# Altium footprint library A20_DVK1_BASE_V16.PcbLib: 45 footprints (part 3 of 3)
Each footprint in its own frame and in the unit in brackets; x right, y up, seen from the top. Pads: shape width x height; smd on the part's side, far side on the other; paste and mask are expansions set on the pad; w line width, h text height; cw(c..) or ccw(c..) is an arc to the next point about the centre after c.
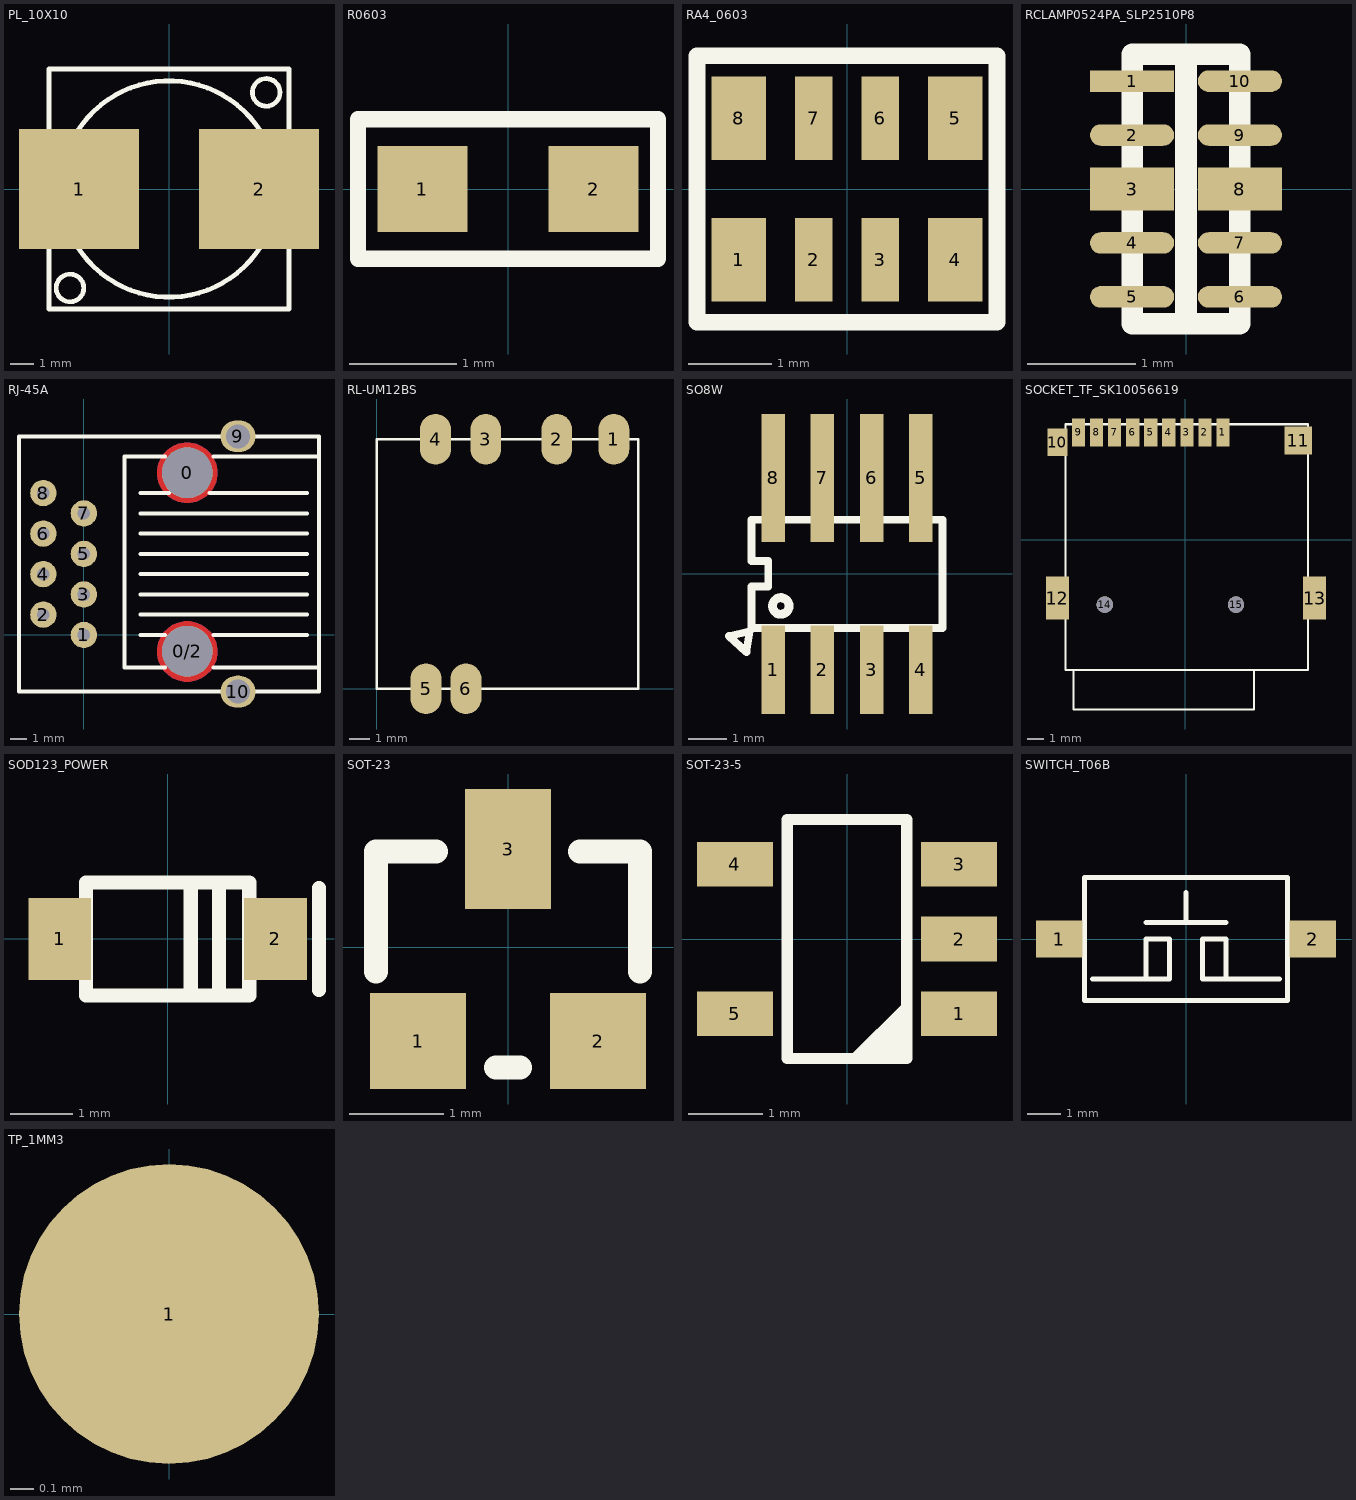
[diagram p2: the footprints below, top view; thin cyan lines are the x and y axes]

## PL_10X10 [mm]
pads (2):
  rect 5.08x5.08 smd: 1(-3.81,0) 2(3.81,0)
Top Overlay:
  circle w0.203: c0,0 r4.579
  circle w0.203: c-4.191,-4.191 r0.584
  circle w0.203: c4.115,4.089 r0.584
  lines w0.203: -5.08,-5.08 5.08,-5.08 5.08,5.08 -5.08,5.08 -5.08,-5.08

## R0603 [mm]
pads (2):
  rect 0.84x0.8 smd: 1(-0.8,0) 2(0.8,0)
Top Overlay:
  lines w0.152: -1.4,-0.65 1.4,-0.65 1.4,0.65 -1.4,0.65 -1.4,-0.65

## RA4_0603 [mm]
pads (8):
  rect 0.65x1 smd: 1(-1.3,-0.85) 4(1.3,-0.85) 5(1.3,0.85) 8(-1.3,0.85)
  rect 0.45x1 smd: 2(-0.4,-0.85) 3(0.4,-0.85) 6(0.4,0.85) 7(-0.4,0.85)
Top Overlay:
  lines w0.2: -1.8,-1.6 -1.8,1.6 1.8,1.6 1.8,-1.6 -1.8,-1.6

## RCLAMP0524PA_SLP2510P8 [mm]
pads (10):
  rect 0.78x0.2 smd: 1(-0.5,1)
  oval 0.78x0.2 smd: 2(-0.5,0.5) 4(-0.5,-0.5) 5(-0.5,-1) 6(0.5,-1) 7(0.5,-0.5) 9(0.5,0.5) 10(0.5,1)
  rect 0.78x0.4 smd paste-0.1: 3(-0.5,0) 8(0.5,0)
Top Overlay:
  lines w0.2: 0,1.25 0,1.094 0,1.25 ; 0,1.25 0,-1.25 0,1.25 ; -0.5,-1.25 0.5,-1.25 0.5,1.25 -0.5,1.25 -0.5,-1.25

## RJ-45A [mm]
pads (12):
  round 3.175 hole 3.175 unplated: 0(6.477,10.16)
  round 3.175 hole 3.175: 0/2(6.477,-1.016)
  round 1.65 hole 0.8: 1(0,0) 2(-2.54,1.27) 3(0,2.54) 4(-2.54,3.81) 5(0,5.08) 6(-2.54,6.35) 7(0,7.62) 8(-2.54,8.89)
  oval 2.2x1.991 / inner oval 2.2x2 / far side oval 3.048x2.54 hole 1.5: 9(9.652,12.446)
  oval 2.2x2 / inner oval 2.2x2 / far side oval 3.048x2.54 hole 1.5: 10(9.652,-3.556)
Top Layer:
  region: 8.362,10.16 8.362,10.346 8.289,10.71 8.147,11.053 7.941,11.361 7.678,11.624 7.37,11.83 7.027,11.972 6.663,12.045 6.477,12.045 6.291,12.045 5.927,11.972 5.584,11.83 5.276,11.624 5.013,11.361 4.807,11.053 4.665,10.71 4.592,10.346 4.592,10.16 4.592,9.974 4.665,9.61 4.807,9.267 5.013,8.959 5.276,8.696 5.584,8.49 5.927,8.348 6.291,8.275 6.477,8.275 6.663,8.275 7.027,8.348 7.37,8.49 7.678,8.696 7.941,8.959 8.147,9.267 8.289,9.61 8.362,9.974
  region: 8.362,-1.041 8.362,-0.856 8.289,-0.492 8.147,-0.149 7.941,0.16 7.678,0.423 7.37,0.629 7.027,0.771 6.663,0.843 6.477,0.843 6.291,0.843 5.927,0.771 5.584,0.629 5.276,0.423 5.013,0.16 4.807,-0.149 4.665,-0.492 4.592,-0.856 4.592,-1.041 4.592,-1.227 4.665,-1.591 4.807,-1.934 5.013,-2.243 5.276,-2.505 5.584,-2.712 5.927,-2.854 6.291,-2.926 6.477,-2.926 6.663,-2.926 7.027,-2.854 7.37,-2.712 7.678,-2.505 7.941,-2.243 8.147,-1.934 8.289,-1.591 8.362,-1.227
Bottom Layer:
  region: 8.362,10.16 8.362,10.346 8.289,10.71 8.147,11.053 7.941,11.361 7.678,11.624 7.37,11.83 7.027,11.972 6.663,12.045 6.477,12.045 6.291,12.045 5.927,11.972 5.584,11.83 5.276,11.624 5.013,11.361 4.807,11.053 4.665,10.71 4.592,10.346 4.592,10.16 4.592,9.974 4.665,9.61 4.807,9.267 5.013,8.959 5.276,8.696 5.584,8.49 5.927,8.348 6.291,8.275 6.477,8.275 6.663,8.275 7.027,8.348 7.37,8.49 7.678,8.696 7.941,8.959 8.147,9.267 8.289,9.61 8.362,9.974
  region: 8.362,-1.041 8.362,-0.856 8.289,-0.492 8.147,-0.149 7.941,0.16 7.678,0.423 7.37,0.629 7.027,0.771 6.663,0.843 6.477,0.843 6.291,0.843 5.927,0.771 5.584,0.629 5.276,0.423 5.013,0.16 4.807,-0.149 4.665,-0.492 4.592,-0.856 4.592,-1.041 4.592,-1.227 4.665,-1.591 4.807,-1.934 5.013,-2.243 5.276,-2.505 5.584,-2.712 5.927,-2.854 6.291,-2.926 6.477,-2.926 6.663,-2.926 7.027,-2.854 7.37,-2.712 7.678,-2.505 7.941,-2.243 8.147,-1.934 8.289,-1.591 8.362,-1.227
Top Overlay:
  lines w0.254: 3.556,0 5.08,0 ; 3.556,1.27 13.97,1.27 ; 3.556,2.54 13.97,2.54 ; 3.556,3.81 13.97,3.81 ; 3.556,5.08 13.97,5.08 ; 3.556,6.35 13.97,6.35 ; 3.556,7.62 13.97,7.62 ; 3.556,8.89 5.334,8.89 ; 5.08,-2.032 2.54,-2.032 2.54,11.176 5.08,11.176 ; 7.874,8.89 13.97,8.89 ; 8.128,-2.032 14.732,-2.032 ; 8.128,0 13.97,0 ; 8.128,11.176 14.732,11.176 ; -4.064,-3.556 14.732,-3.556 14.732,12.446 -4.064,12.446 -4.064,-3.556

## RL-UM12BS [mm]
pads (6):
  oval 1.524x2.5 smd: 1(11.7,12.3) 2(8.88,12.3) 3(5.38,12.3) 4(2.9,12.3) 5(2.43,0) 6(4.4,0)
Top Overlay:
  lines w0.127: 0,0 12.9,0 12.9,12.3 0,12.3 0,0

## SO8W [mil]
pads (8):
  rect 24x90 smd: 1(-75,-97.5) 2(-25,-97.5) 3(25,-97.5) 4(75,-97.5)
  rect 24x130 smd: 5(75,97.5) 6(25,97.5) 7(-25,97.5) 8(-75,97.5)
Top Overlay:
  circle w9: c-67.34,-32.67 r8.46
  lines w8: -99.21,-58.27 -120.08,-63.39 -102.36,-79.53 -98.82,-58.27 ; -97,-55 97,-55 97,55 -97,55 -97,13 -80,13 -80,-13 -97,-13 -97,-55

## SOCKET_TF_SK10056619 [mm]
pads (15):
  rect 0.8x1.7 smd: 1(2.294,6.556) 2(1.194,6.556) 3(0.094,6.556) 4(-1.006,6.556) 5(-2.106,6.556) 6(-3.206,6.556) 7(-4.306,6.556) 8(-5.406,6.556) 9(-6.506,6.556)
  rect 1.2x1.7 smd: 10(-7.8,5.956)
  rect 1.7x1.7 smd: 11(6.894,6.056)
  rect 1.4x2.6 smd: 12(-7.806,-3.544) 13(7.894,-3.544)
  round 1 hole 1 unplated: 14(-4.906,-3.944) 15(3.094,-3.944)
Top Overlay:
  lines w0.127: -7.306,-7.944 7.494,-7.944 7.494,7.056 -7.306,7.056 -7.306,-7.944 ; -6.806,-10.344 4.194,-10.344 4.194,-7.944 -6.806,-7.944 -6.806,-10.344

## SOD123_POWER [mm]
pads (2):
  rect 1x1.3 smd: 1(-1.719,0) 2(1.719,0)
Top Overlay:
  lines w0.229: 0.367,-0.9 0.367,0.9 ; 0.82,-0.9 0.82,0.9 ; 2.413,-0.813 2.413,0.813 ; -1.3,-0.9 1.3,-0.9 1.3,0.9 -1.3,0.9 -1.3,-0.9

## SOT-23 [mil]
pads (3):
  rect 40x40 smd: 1(-37.5,-39) 2(37.5,-39)
  rect 36x50 smd: 3(0,41)
Top Overlay:
  lines w10: -55,-10 -55,40 -30,40 ; -5,-50 5,-50 ; 30,40 55,40 55,-10

## SOT-23-5 [mm]
pads (5):
  rect 1.016x0.6 smd: 1(1.5,-1) 2(1.5,0) 3(1.5,1) 4(-1.5,1) 5(-1.5,-1)
Top Overlay:
  lines w0.152: 0.128,-1.584 0.789,-0.924 ; 0.611,-1.559 0.789,-1.381 ; -0.8,-1.6 -0.8,1.6 0.8,1.6 0.8,-1.6 -0.8,-1.6
  lines w0.203: 0.363,-1.479 0.693,-1.149 ; 0.433,-1.559 0.763,-1.229

## SWITCH_T06B [mm]
pads (2):
  rect 1.4x1.1 smd: 1(-3.8,0) 2(3.8,0)
Top Overlay:
  lines w0.152: -2.8,-1.2 -0.5,-1.2 -0.5,0 -1.2,0 -1.2,-1.2 ; -1.2,0.5 1.2,0.5 ; 0,0.5 0,1.4 ; 1.2,-1.2 1.2,0 0.5,0 0.5,-1.2 2.8,-1.2 ; -3.05,-1.85 3.05,-1.85 3.05,1.85 -3.05,1.85 -3.05,-1.85

## TP_1MM3 [mm]
pads (1):
  round 1.3 smd: 1(0,0)